# Altium footprint library HC0506_TH.PcbLib: 1 footprints
Each footprint in its own frame and in the unit in brackets; x right, y up, seen from the top. Pads: shape width x height; smd on the part's side, far side on the other; paste and mask are expansions set on the pad; w line width, h text height; cw(c..) or ccw(c..) is an arc to the next point about the centre after c.
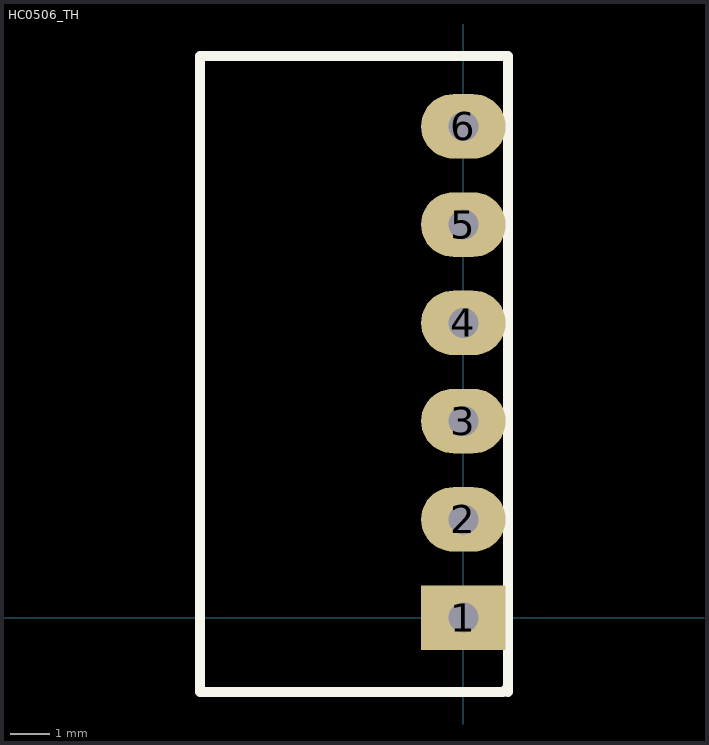
[diagram p0: the footprint, top view; thin cyan lines are the x and y axes]

## HC0506_TH [mil]
pads (6):
  rect 85x65 hole 30: 1(0,0)
  oval 85x65 hole 30: 2(0,98.82) 3(0,197.64) 4(0,296.46) 5(0,395.28) 6(0,494.09)
Top Overlay:
  lines w10: -265,-75 -265,565 45,565 45,-75 45,-70 40,-75 -265,-75
3D body: height 10, standoff 0, extent -325,480 -325,480
3D body "HC-05.STEP": height 728.35, standoff -948.16, extent -259.37,-69.95 -1.5,559.97